# Altium footprint library Connector_Card.PcbLib: 23 footprints (part 1 of 2)
Each footprint in its own frame and in the unit in brackets; x right, y up, seen from the top. Pads: shape width x height; smd on the part's side, far side on the other; paste and mask are expansions set on the pad; w line width, h text height; cw(c..) or ccw(c..) is an arc to the next point about the centre after c.
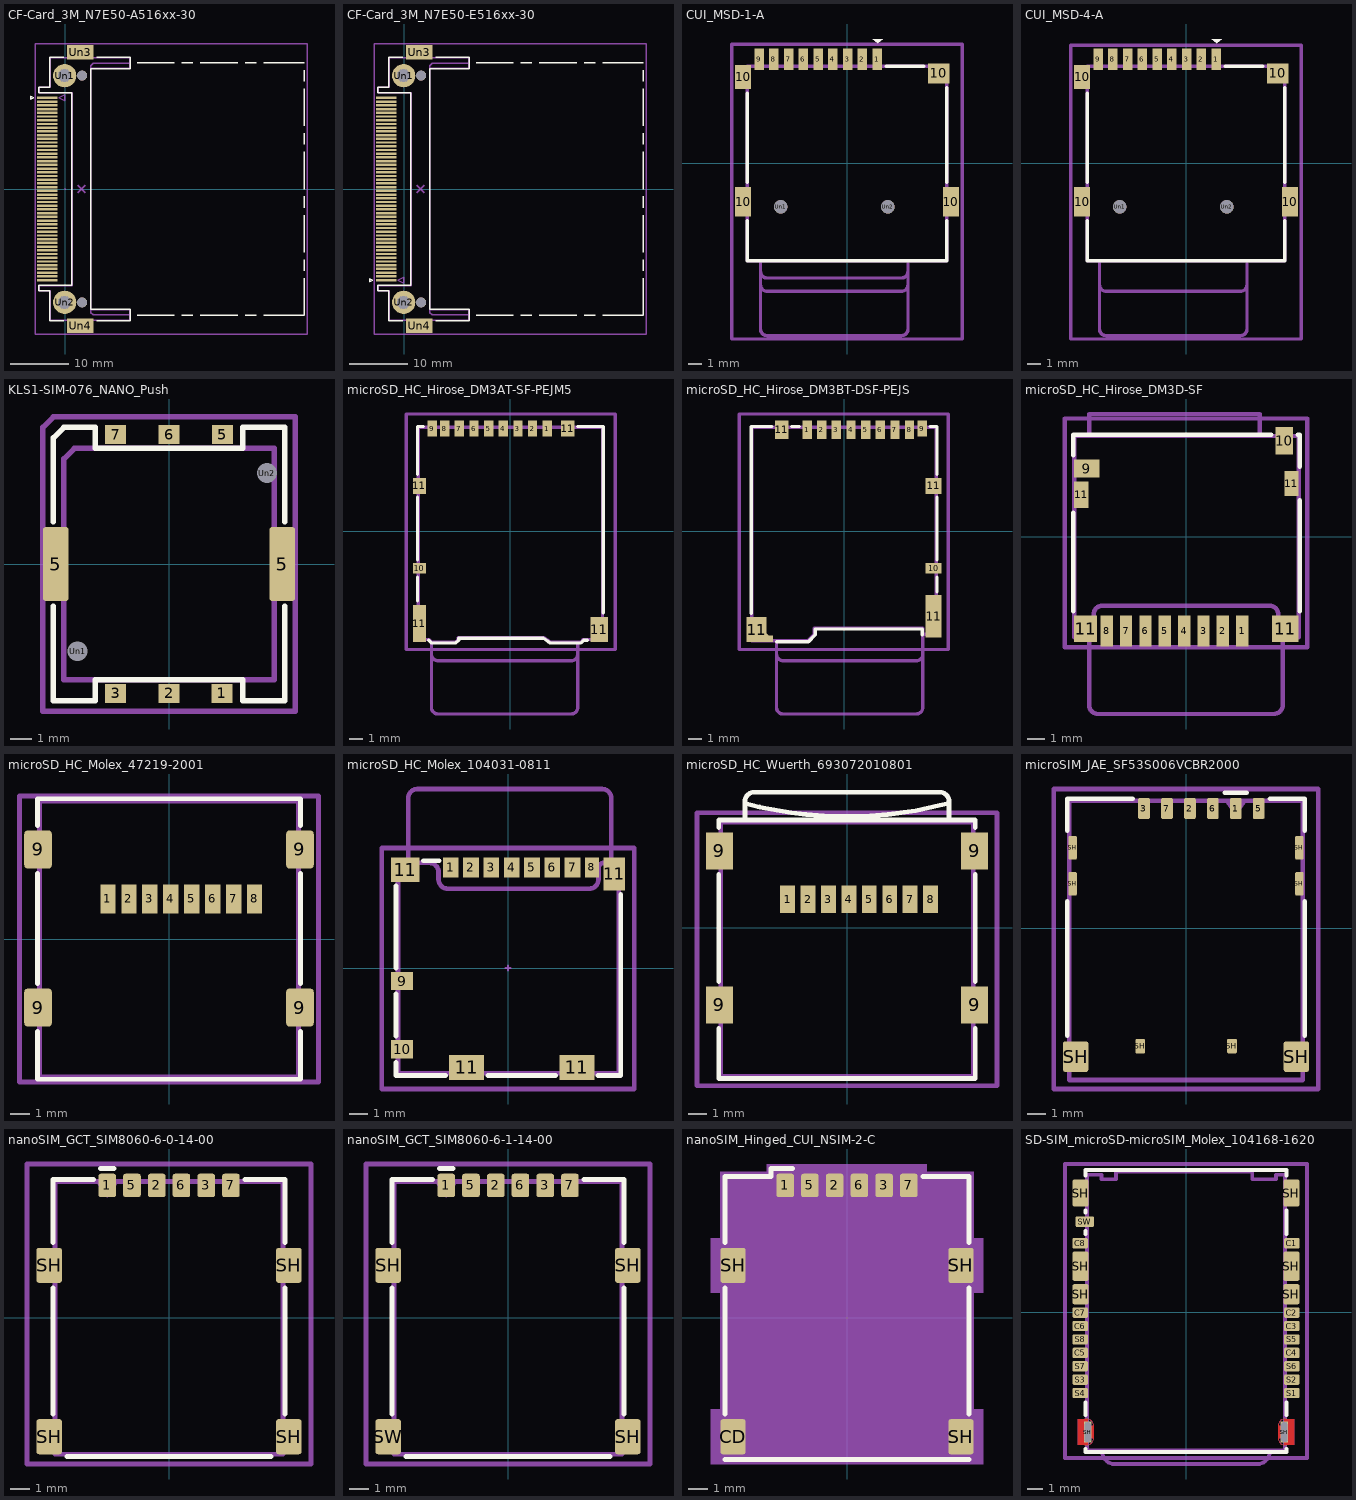
[diagram p0: the footprints below, top view; thin cyan lines are the x and y axes]

## CF-Card_3M_N7E50-A516xx-30 [mm]
pads (56):
  rect 3.51x0.41 smd: 1(-3.1,15.56) 2(-3.1,14.29) 3(-3.1,13.02) 4(-3.1,11.75) 5(-3.1,10.48) 6(-3.1,9.21) 7(-3.1,7.94) 8(-3.1,6.67) 9(-3.1,5.4) 10(-3.1,4.13) 11(-3.1,2.86) 12(-3.1,1.59) 13(-3.1,0.32) 14(-3.1,-0.95) 15(-3.1,-2.22) 16(-3.1,-3.49) 17(-3.1,-4.76) 18(-3.1,-6.03) 19(-3.1,-7.3) 20(-3.1,-8.57) 21(-3.1,-9.84) 22(-3.1,-11.11) 23(-3.1,-12.38) 24(-3.1,-13.65) 25(-3.1,-14.92) 26(-3.1,14.92) 27(-3.1,13.65) 28(-3.1,12.38) 29(-3.1,11.11) 30(-3.1,9.84) 31(-3.1,8.57) 32(-3.1,7.3) 33(-3.1,6.03) 34(-3.1,4.76) 35(-3.1,3.49) 36(-3.1,2.22) 37(-3.1,0.95) 38(-3.1,-0.32) 39(-3.1,-1.59) 40(-3.1,-2.86) 41(-3.1,-4.13) 42(-3.1,-5.4) 43(-3.1,-6.67) 44(-3.1,-7.94) 45(-3.1,-9.21) 46(-3.1,-10.48) 47(-3.1,-11.75) 48(-3.1,-13.02) 49(-3.1,-14.29) 50(-3.1,-15.56)
  round 3.99 hole 2.21: Un1(-0.1,19.37) Un2(-0.1,-19.37)
  rect 4.57x2.49 smd: Un3(2.57,23.34) Un4(2.57,-23.34)
  round 1.7 hole 1.7: Un5(2.9,19.37) Un6(2.9,-19.37)
F.SilkS:
  lines w0.254: -0.28,-22.48 -2.64,-22.48 -2.64,-17.42 -4.52,-17.42 -4.52,-16.41 1.09,-16.41 1.09,16.41 -4.52,16.41 -4.52,17.42 -2.64,17.42 -2.64,22.48 -0.28,22.48 ; 5.41,-22.48 11.08,-22.48 11.08,-20.55 4.4,-20.55 4.4,20.55 11.08,20.55 11.08,22.48 5.41,22.48 ; 12.3,-21.59 18.65,-21.59 ; 12.3,21.59 18.65,21.59 ; 19.92,-21.59 21.82,-21.59 ; 19.92,21.59 21.82,21.59 ; 23.09,-21.59 29.44,-21.59 ; 23.09,21.59 29.44,21.59 ; 30.71,-21.59 32.62,-21.59 ; 30.71,21.59 32.62,21.59 ; 33.89,-21.59 40.87,-21.59 40.87,-15.24 ; 33.89,21.59 40.87,21.59 ; 40.87,-13.97 40.87,-12.06 ; 40.87,-10.79 40.87,-4.45 ; 40.87,-3.17 40.87,-1.27 ; 40.87,0 40.87,6.35 ; 40.87,7.62 40.87,9.53 ; 40.87,10.79 40.87,17.14 ; 40.87,18.41 40.87,20.32 ; -5.85,15.31 -5.85,15.81 -5.35,15.56 -5.85,15.31
Top Component Center:
  lines w0.127: -0.127,0 0.127,0 ; 0,-0.127 0,0.127
Top Assembly:
  lines w0.254: 2.14,-0.64 3.41,0.64 ; 2.14,0.64 3.41,-0.64 ; 4.32,20.55 4.32,21.05 4.77,21.5 11.02,21.5 ; 11.02,-21.5 4.77,-21.5 4.37,-21.1 4.32,-21.05 4.32,-20.6 ; 4.32,-20.6 4.32,20.6 11.02,20.6 11.02,22.4 -2.58,22.4 -2.58,17.4 -4.43,17.4 -4.43,16.45 1.17,16.45 1.17,-16.5 -4.43,-16.5 -4.43,-17.35 -2.58,-17.35 -2.58,-22.4 11.02,-22.4 11.02,-20.6 4.32,-20.6 ; -1.1,15.56 -0.1,15.06 -0.1,16.06 -1.1,15.56
  text "'.Designator'" at 1.375,-4.047 h1
Top Courtyard:
  lines w0.254: -5.1,-24.8 -5.1,24.85 41.3,24.85 41.3,-24.8 -5.1,-24.8
Top Designator:
  text ".Designator" at 10.107,-0.483 h1.52

## CF-Card_3M_N7E50-E516xx-30 [mm]
pads (56):
  rect 3.51x0.41 smd: 1(-3.1,-15.56) 2(-3.1,-14.29) 3(-3.1,-13.02) 4(-3.1,-11.75) 5(-3.1,-10.48) 6(-3.1,-9.21) 7(-3.1,-7.94) 8(-3.1,-6.67) 9(-3.1,-5.4) 10(-3.1,-4.13) 11(-3.1,-2.86) 12(-3.1,-1.59) 13(-3.1,-0.32) 14(-3.1,0.95) 15(-3.1,2.22) 16(-3.1,3.49) 17(-3.1,4.76) 18(-3.1,6.03) 19(-3.1,7.3) 20(-3.1,8.57) 21(-3.1,9.84) 22(-3.1,11.11) 23(-3.1,12.38) 24(-3.1,13.65) 25(-3.1,14.92) 26(-3.1,-14.92) 27(-3.1,-13.65) 28(-3.1,-12.38) 29(-3.1,-11.11) 30(-3.1,-9.84) 31(-3.1,-8.57) 32(-3.1,-7.3) 33(-3.1,-6.03) 34(-3.1,-4.76) 35(-3.1,-3.49) 36(-3.1,-2.22) 37(-3.1,-0.95) 38(-3.1,0.32) 39(-3.1,1.59) 40(-3.1,2.86) 41(-3.1,4.13) 42(-3.1,5.4) 43(-3.1,6.67) 44(-3.1,7.94) 45(-3.1,9.21) 46(-3.1,10.48) 47(-3.1,11.75) 48(-3.1,13.02) 49(-3.1,14.29) 50(-3.1,15.56)
  round 3.99 hole 2.21: Un1(-0.1,19.37) Un2(-0.1,-19.37)
  rect 4.57x2.49 smd: Un3(2.57,23.34) Un4(2.57,-23.34)
  round 1.7 hole 1.7: Un5(2.9,19.37) Un6(2.9,-19.37)
F.SilkS:
  lines w0.254: -0.28,-22.48 -2.64,-22.48 -2.64,-17.42 -4.52,-17.42 -4.52,-16.41 1.09,-16.41 1.09,16.41 -4.52,16.41 -4.52,17.42 -2.64,17.42 -2.64,22.48 -0.28,22.48 ; 5.41,-22.48 11.08,-22.48 11.08,-20.55 4.4,-20.55 4.4,20.55 11.08,20.55 11.08,22.48 5.41,22.48 ; 12.3,-21.59 18.65,-21.59 ; 12.3,21.59 18.65,21.59 ; 19.92,-21.59 21.82,-21.59 ; 19.92,21.59 21.82,21.59 ; 23.09,-21.59 29.44,-21.59 ; 23.09,21.59 29.44,21.59 ; 30.71,-21.59 32.62,-21.59 ; 30.71,21.59 32.62,21.59 ; 33.89,-21.59 40.87,-21.59 40.87,-15.24 ; 33.89,21.59 40.87,21.59 ; 40.87,-13.97 40.87,-12.06 ; 40.87,-10.79 40.87,-4.45 ; 40.87,-3.17 40.87,-1.27 ; 40.87,0 40.87,6.35 ; 40.87,7.62 40.87,9.53 ; 40.87,10.79 40.87,17.14 ; 40.87,18.41 40.87,20.32 ; -5.85,-15.81 -5.35,-15.56 -5.85,-15.31 -5.85,-15.81
Top Assembly:
  lines w0.254: 2.14,-0.64 3.41,0.64 ; 2.14,0.64 3.41,-0.64 ; 4.32,20.55 4.32,21.05 4.77,21.5 11.02,21.5 ; 11.02,-21.5 4.77,-21.5 4.37,-21.1 4.32,-21.05 4.32,-20.6 ; 4.32,-20.6 11.02,-20.6 11.02,-22.4 -2.58,-22.4 -2.58,-17.35 -4.43,-17.35 -4.43,-16.5 1.17,-16.5 1.17,16.45 -4.43,16.45 -4.43,17.4 -2.58,17.4 -2.58,22.4 11.02,22.4 11.02,20.6 4.32,20.6 4.32,-20.6 ; -1.1,-15.56 -0.1,-16.06 -0.1,-15.06 -1.1,-15.56
  text "'.Designator'" at 1.375,-4.047 h1
Top Courtyard:
  lines w0.254: -5.1,-24.8 41.3,-24.8 41.3,24.85 -5.1,24.85 -5.1,-24.8
Top Designator:
  text ".Designator" at 10.107,-0.483 h1.52

## CUI_MSD-1-A [mm]
pads (15):
  rect 0.7x1.6 smd: 1(2.25,7.75) 2(1.15,7.75) 3(0.05,7.75) 4(-1.05,7.75) 5(-2.15,7.75) 6(-3.25,7.75) 7(-4.35,7.75) 8(-5.45,7.75) 9(-6.55,7.75)
  rect 1.2x2.2 smd: 10(-7.75,-2.85) 10(7.75,-2.85)
  rect 1.2x1.8 smd: 10(-7.75,6.45)
  rect 1.6x1.5 smd: 10(6.85,6.7)
  round 1 hole 1: Un1(-4.95,-3.25) Un2(3.05,-3.25)
F.SilkS:
  region: 1.905,9.271 2.667,9.271 2.286,8.944
  lines w0.254: -7.425,-4.27 -7.425,-7.25 7.425,-7.25 7.425,-4.27 ; -7.425,-1.43 -7.425,5.23 ; 2.92,7.25 5.73,7.25 ; 7.425,-1.43 7.425,5.63
Top Assembly:
  region: 1.905,9.271 2.667,9.271 2.286,8.944
  lines w0.254: -6.45,-9.05 ccw(c-5.95,-9.05) -5.95,-9.55 4.05,-9.55 ccw(c4.05,-9.05) 4.55,-9.05 ; -6.45,-8.05 ccw(c-5.95,-8.05) -5.95,-8.55 4.05,-8.55 ccw(c4.05,-8.05) 4.55,-8.05 ; -6.45,-7.25 -7.425,-7.25 -7.425,7.25 7.425,7.25 7.425,-7.25 4.55,-7.25 ; -6.45,-7.25 -6.45,-12.35 ccw(c-5.95,-12.35) -5.95,-12.85 4.05,-12.85 ccw(c4.05,-12.35) 4.55,-12.35 4.55,-7.25 ; -6.45,-7.25 4.55,-7.25
  text "'.Designator'" at -2.418,-0.227 h1
Top Courtyard:
  lines w0.254: -8.6,-13.1 8.6,-13.1 8.6,8.89 -8.6,8.89 -8.6,-13.1
Top Designator:
  text ".Designator" at -3.434,-0.345 h1.52
3D body "MSD-1-A.step": height 1.8, standoff -0.6, extent -8.075,-7.239 8.075,7.811

## CUI_MSD-4-A [mm]
pads (15):
  rect 0.7x1.6 smd: 1(2.25,7.75) 2(1.15,7.75) 3(0.05,7.75) 4(-1.05,7.75) 5(-2.15,7.75) 6(-3.25,7.75) 7(-4.35,7.75) 8(-5.45,7.75) 9(-6.55,7.75)
  rect 1.2x2.2 smd: 10(-7.75,-2.85) 10(7.75,-2.85)
  rect 1.2x1.8 smd: 10(-7.75,6.45)
  rect 1.6x1.5 smd: 10(6.85,6.7)
  round 1 hole 1: Un1(-4.95,-3.25) Un2(3.05,-3.25)
F.SilkS:
  region: 1.905,9.271 2.667,9.271 2.286,8.944
  lines w0.254: -7.375,-4.27 -7.375,-7.25 7.375,-7.25 7.375,-4.27 ; -7.375,-1.43 -7.375,5.23 ; 2.92,7.25 5.73,7.25 ; 7.375,-1.43 7.375,5.63
Top Assembly:
  region: 1.905,9.271 2.667,9.271 2.286,8.944
  lines w0.254: -6.45,-9.05 ccw(c-5.95,-9.05) -5.95,-9.55 4.05,-9.55 ccw(c4.05,-9.05) 4.55,-9.05 ; -6.45,-7.25 4.55,-7.25 ; -6.45,-7.25 -6.45,-12.35 ccw(c-5.95,-12.35) -5.95,-12.85 4.05,-12.85 ccw(c4.05,-12.35) 4.55,-12.35 4.55,-7.25 ; -6.45,-7.25 -7.375,-7.25 -7.375,7.25 7.375,7.25 7.375,-7.25 4.55,-7.25
  text "'.Designator'" at -2.418,-0.227 h1
Top Courtyard:
  lines w0.254: -8.6,-13.1 8.6,-13.1 8.6,8.8 -8.6,8.8 -8.6,-13.1
Top Designator:
  text ".Designator" at -3.434,-0.345 h1.52
3D body "MSD-4-A.step": height 1.8, standoff -0.6, extent -8.075,-7.366 8.075,7.684

## KLS1-SIM-076_NANO_Push [mm]
pads (10):
  rect 1x0.9 smd: 1(2.51,-6.15) 2(0,-6.15) 3(-2.54,-6.15) 5(2.54,6.15) 6(0,6.15) 7(-2.54,6.15)
  rrect15% 1.2x3.5 smd: 5(-5.385,0) 5(5.385,0)
  round 0.9 hole 0.95: Un1(-4.35,-4.15) Un2(4.66,4.32)
F.SilkS:
  lines w0.254: -5.5,-2 -5.5,-6.5 -3.5,-6.5 -3.5,-5.5 3.5,-5.5 3.5,-6.5 5.5,-6.5 5.5,-2 ; -5.5,2 -5.5,6 -5,6.5 -3.5,6.5 -3.5,5.5 3.5,5.5 3.5,6.5 5.5,6.5 5.5,2
Top Assembly:
  lines w0.254: -5,-5.5 -5,5 -4.5,5.5 5,5.5 5,-5.5 -5,-5.5
  text "'.Designator'" at -4.047,-0.84 h1
Top Courtyard:
  lines w0.254: -6,-7 -6,6.5 -5.5,7 6,7 6,-7 -6,-7
Top Designator:
  text ".Designator" at -7.618,-0.508 h1.52
3D body "KLS1-SIM-076.stp": height 1.35, standoff -0.3, extent -5.525,-6.15 5.525,6.15

## microSD_HC_Hirose_DM3AT-SF-PEJM5 [mm]
pads (14):
  rect 0.7x1.2 smd: 1(2.775,7.725) 2(1.675,7.725) 3(0.575,7.725) 4(-0.525,7.725) 5(-1.625,7.725) 6(-2.725,7.725) 7(-3.825,7.725) 8(-4.925,7.725) 9(-5.875,7.725)
  rect 1x0.8 smd: 10(-6.825,-2.775)
  rect 1x2.8 smd: 11(-6.825,-6.925)
  rect 1x1.2 smd: 11(-6.825,3.425) 11(4.325,7.725)
  rect 1.3x1.9 smd: 11(6.675,-7.375)
F.SilkS:
  lines w0.254: -6.975,-5.225 -6.975,-3.425 ; -6.975,-2.125 -6.975,2.575 ; -6.975,4.275 -6.975,7.885 -6.525,7.885 ; -6.145,-8.185 -5.945,-8.385 -4.085,-8.385 -3.875,-8.185 -3.875,-8.035 2.495,-8.035 3.005,-8.385 5.315,-8.385 5.515,-8.185 5.775,-8.185 ; 5.075,7.885 6.995,7.885 6.995,-6.125
Top Assembly:
  lines w0.254: -5.925,-9.225 ccw(c-5.425,-9.225) -5.425,-9.725 4.575,-9.725 ccw(c4.575,-9.225) 5.075,-9.225 ; -5.925,-8.325 -5.925,-13.225 ccw(c-5.425,-13.225) -5.425,-13.725 4.575,-13.725 ccw(c4.575,-13.225) 5.075,-13.225 5.075,-8.325 ; -6.925,-8.125 -6.925,7.825 6.925,7.825 6.925,-8.125 5.485,-8.125 5.285,-8.325 3.035,-8.325 2.51,-7.975 -3.915,-7.975 -3.915,-8.125 -4.115,-8.325 -5.915,-8.325 -6.115,-8.125 -6.925,-8.125
  text "'.Designator'" at -4.072,-1.165 h1
Top Courtyard:
  lines w0.254: -7.82,-8.88 -7.82,8.82 7.88,8.82 7.88,-8.88 -7.82,-8.88
Top Designator:
  text ".Designator" at -7.588,-2.96 h1.52
Cmts.User:
  text "KEEPOUT" at -6.46,1.373 h0.6
  text "KEEPOUT" at -5.385,-4.252 h0.6
  text "KEEPOUT" at -4.153,1.325 h1
  text "KEEPOUT" at 2.949,-7.91 h0.4
3D body "microSD_HC_Hirose_DM3AT-SF-PEJM5.step": height 1.68, standoff 0, extent -6.925,-8.325 6.925,7.825

## microSD_HC_Hirose_DM3BT-DSF-PEJS [mm]
pads (16):
  rect 0.7x1.4 smd: 1(-2.775,7.625) 2(-1.675,7.625) 3(-0.575,7.625) 4(0.525,7.625) 5(1.625,7.625) 6(2.725,7.625) 7(3.825,7.625) 8(4.925,7.625)
  rect 0.7x1.2 smd: 9(5.875,7.725)
  rect 1.2x0.8 smd: 10(6.725,-2.775)
  rect 1.5x1.9 smd: 11(-6.575,-7.375)
  rect 0.2x0.2 smd rot 45: 11(-5.825,-7.825)
  rect 0.5x0.5 smd: 11(-5.575,-8.075)
  rect 1x1.4 smd: 11(-4.675,7.625)
  rect 1.2x3.2 smd: 11(6.725,-6.375)
  rect 1.2x1.2 smd: 11(6.725,3.425)
F.SilkS:
  lines w0.254: -6.985,-6.175 -6.985,7.885 -5.425,7.885 ; -5.075,-8.285 -2.675,-8.285 ; -3.925,7.885 -3.375,7.885 ; -2.665,-8.275 -2.165,-7.785 -2.165,-7.335 5.865,-7.335 5.865,-7.785 ; 6.475,7.885 6.985,7.885 6.985,4.275 ; 6.985,-4.525 6.985,-3.425 ; 6.985,-2.125 6.985,2.575
Top Assembly:
  lines w0.254: -5.075,-9.225 ccw(c-4.575,-9.225) -4.575,-9.725 5.425,-9.725 ccw(c5.425,-9.225) 5.925,-9.225 ; -5.075,-8.225 -5.075,-13.225 ccw(c-4.575,-13.225) -4.575,-13.725 5.425,-13.725 ccw(c5.425,-13.225) 5.925,-13.225 5.925,-7.275 -2.225,-7.275 -2.225,-7.725 -2.725,-8.225 -6.925,-8.225 -6.925,7.825 6.925,7.825 6.925,-7.725 5.925,-7.725
  text "'.Designator'" at -3.672,-2.365 h1
Top Courtyard:
  lines w0.254: -7.88,-8.88 7.82,-8.88 7.82,8.82 -7.88,8.82 -7.88,-8.88
Top Designator:
  text ".Designator" at -7.648,-2.96 h1.52
Cmts.User:
  text "KEEPOUT" at 7.17,1.691 h0.5

## microSD_HC_Hirose_DM3D-SF [mm]
pads (14):
  rect 0.7x1.75 smd: 1(3.175,-5.35) 2(2.075,-5.35) 3(0.975,-5.35) 4(-0.125,-5.35) 5(-1.225,-5.35) 6(-2.325,-5.35) 7(-3.425,-5.35) 8(-4.525,-5.35)
  rect 1.45x1 smd: 9(-5.65,3.875)
  rect 1x1.55 smd: 10(5.575,5.45)
  rect 0.8x1.5 smd: 11(-5.975,2.375)
  rect 1.3x1.5 smd: 11(-5.725,-5.225)
  rect 1.5x1.5 smd: 11(5.625,-5.225)
  rect 0.8x1.4 smd: 11(5.975,3.025)
F.SilkS:
  lines w0.254: -6.435,-4.225 -6.435,1.375 ; -6.435,4.625 -6.435,5.785 4.825,5.785 ; 6.325,5.785 6.435,5.785 6.435,3.975 ; 6.435,-4.225 6.435,2.075
Top Assembly:
  lines w0.254: -5.525,5.725 -5.525,6.975 4.175,6.975 4.175,5.725 ; -5.525,-5.725 ccw(c-5.525,-5.475) -5.275,-5.475 -5.275,-4.425 cw(c-4.775,-4.425) -4.775,-3.925 4.725,-3.925 cw(c4.725,-4.425) 5.225,-4.425 5.225,-5.475 ccw(c5.475,-5.475) 5.475,-5.725 ; -5.525,-5.725 -5.525,-9.575 ccw(c-5.025,-9.575) -5.025,-10.075 4.975,-10.075 ccw(c4.975,-9.575) 5.475,-9.575 5.475,-5.725 ; -5.525,-5.725 -6.375,-5.725 -6.375,5.725 6.375,5.725 6.375,-5.725 5.475,-5.725
  text "'.Designator'" at -4.022,-2.265 h1
Top Courtyard:
  lines w0.254: -6.92,-6.28 6.88,-6.28 6.88,6.72 -6.92,6.72 -6.92,-6.28
Top Designator:
  text ".Designator" at -7.638,-2.058 h1.52
Cmts.User:
  text "KEEPOUT" at -1.976,4.54 h0.4
  text "KEEPOUT" at -3.353,-0.075 h1
3D body "microSD_HC_Hirose_DM3D-SF.step": height 1.55, standoff 0, extent -5.975,-5.775 5.975,5.675

## microSD_HC_Molex_47219-2001 [mm]
pads (12):
  rect 0.8x1.5 smd: 1(-3.205,2.1) 2(-2.105,2.1) 3(-1.005,2.1) 4(0.095,2.1) 5(1.195,2.1) 6(2.295,2.1) 7(3.395,2.1) 8(4.495,2.1)
  rrect25% 1.45x2 smd: 9(-6.875,-3.6) 9(-6.875,4.7) 9(6.875,-3.6) 9(6.875,4.7)
F.SilkS:
  lines w0.254: -6.91,-4.86 -6.91,-7.36 6.91,-7.36 6.91,-4.86 ; -6.91,-2.34 -6.91,3.44 ; -6.91,5.96 -6.91,7.36 6.91,7.36 6.91,5.96 ; 6.91,-2.34 6.91,3.44
Top Assembly:
  lines w0.254: -6.8,-7.25 -6.8,7.25 6.8,7.25 6.8,-7.25 -6.8,-7.25
  text "'.Designator'" at -4.047,-0.84 h1
Top Courtyard:
  lines w0.254: -7.85,-7.5 -7.85,7.5 7.85,7.5 7.85,-7.5 -7.85,-7.5
Top Designator:
  text ".Designator" at -7.618,-0.508 h1.52

## microSD_HC_Molex_104031-0811 [mm]
pads (14):
  rect 0.85x1.1 smd: 1(-3.105,5.45) 2(-2.005,5.45) 3(-0.905,5.45) 4(0.195,5.45) 5(1.295,5.45) 6(2.395,5.45) 7(3.495,5.45)
  rect 0.75x1.1 smd: 8(4.545,5.45)
  rect 1.2x1 smd: 9(-5.74,-0.7) 10(-5.74,-4.4)
  rect 1.55x1.35 smd: 11(-5.565,5.325)
  rect 1.9x1.35 smd: 11(-2.24,-5.375) 11(3.73,-5.375)
  rect 1.17x1.8 smd: 11(5.755,5.1)
F.SilkS:
  lines w0.254: -6.07,-5.1 -6.07,-5.82 -3.39,-5.82 ; -6.07,-3.7 -6.07,-1.4 ; -6.07,0 -6.07,4.45 ; -4.59,5.82 -3.73,5.82 ; -1.09,-5.82 2.58,-5.82 ; 4.88,-5.82 6.11,-5.82 6.11,4
Top Component Center:
  lines w0.127: -0.127,0 0.127,0 ; 0,-0.127 0,0.127
Top Assembly:
  lines w0.254: -5.405,5.7 -5.405,9.2 cw(c-4.905,9.2) -4.905,9.7 5.095,9.7 cw(c5.095,9.2) 5.595,9.2 5.595,5.7 ; 5.2,5.7 ccw(c5.2,5.4) 4.9,5.4 4.9,4.8 cw(c4.4,4.8) 4.4,4.3 -3.26,4.3 cw(c-3.26,4.8) -3.76,4.8 -3.76,5.2 ccw(c-4.26,5.2) -4.26,5.7 -5.955,5.7 -5.955,-5.7 5.995,-5.7 5.995,5.7 5.21,5.7
  text "'.Designator'" at -4.047,-0.84 h1
Top Courtyard:
  lines w0.254: -6.84,-6.55 6.84,-6.55 6.84,6.5 -6.84,6.5 -6.84,-6.55
Top Designator:
  text ".Designator" at -7.618,1.067 h1.52
3D body "1040310811.stp": height 1.44, standoff -0.01, extent -5.955,-5.7 5.995,5.7

## microSD_HC_Wuerth_693072010801 [mm]
pads (12):
  rect 0.8x1.5 smd: 1(-3.2,1.55) 2(-2.1,1.55) 3(-1,1.55) 4(0.1,1.55) 5(1.2,1.55) 6(2.3,1.55) 7(3.4,1.55) 8(4.5,1.55)
  rect 1.45x2 smd: 9(-6.875,-4.15) 9(-6.875,4.15) 9(6.875,-4.15) 9(6.875,4.15)
F.SilkS:
  lines w0.254: -6.91,-5.41 -6.91,-8.11 6.91,-8.11 6.91,-5.41 ; -6.91,-2.89 -6.91,2.89 ; -6.91,5.41 -6.91,5.81 6.91,5.81 6.91,5.41 ; -5.5,5.81 -5.5,6.81 cw(c-5,6.81) -5,7.31 5,7.31 cw(c5,6.81) 5.5,6.81 5.5,5.81 ; -5.5,6.71 -4.7,6.51 -3,6.21 -2.2,6.11 -0.9,6.01 0.9,6.01 2.2,6.11 3.7,6.31 5,6.61 5.5,6.71 ; 6.91,-2.89 6.91,2.89
Top Assembly:
  lines w0.254: -6.8,-8 -6.8,5.7 6.8,5.7 6.8,-8 -6.8,-8
  text "'.Designator'" at -4.047,-1.99 h1
Top Courtyard:
  lines w0.254: -8.08,-8.5 -8.08,6.2 8.08,6.2 8.08,-8.5 -8.08,-8.5
Top Designator:
  text ".Designator" at -7.618,-1.103 h1.52

## microSIM_JAE_SF53S006VCBR2000 [mm]
pads (14):
  rrect25% 0.65x1.15 smd: 1(2.755,6.62) 2(0.215,6.62) 3(-2.325,6.62) 5(4.025,6.62) 6(1.485,6.62) 7(-1.055,6.62)
  rrect25% 0.45x1.3 smd: SH(-6.27,2.45) SH(-6.27,4.45) SH(6.27,2.45) SH(6.27,4.45)
  rrect18% 1.4x1.7 smd: SH(-6.105,-7.11) SH(6.105,-7.11)
  rrect25% 0.54x0.8 smd: SH(-2.535,-6.53) SH(2.545,-6.53)
F.SilkS:
  lines w0.254: -6.56,-5.96 -6.56,1.5 ; -6.56,5.4 -6.56,7.16 -2.95,7.16 ; 2.155,7.495 3.355,7.495 ; 4.65,7.16 6.56,7.16 6.56,5.4 ; 6.56,-5.96 6.56,1.5
Top Assembly:
  lines w0.254: 2.255,7.05 2.755,6.35 3.255,7.05 ; -6.45,-8.4 -6.45,7.05 6.45,7.05 6.45,-8.4 -6.45,-8.4
  text "'.Designator'" at 0.84,-4.047 h1
Top Courtyard:
  lines w0.254: -7.31,-8.9 -7.31,7.7 7.31,7.7 7.31,-8.9 -7.31,-8.9
Top Designator:
  text ".Designator" at -7.618,-1.108 h1.52

## nanoSIM_GCT_SIM8060-6-0-14-00 [mm]
pads (10):
  rrect25% 0.9x1.2 smd: 1(-3.17,6.8) 2(-0.63,6.8) 3(1.91,6.8) 5(-1.9,6.8) 6(0.64,6.8) 7(3.18,6.8)
  rrect19% 1.3x1.8 smd: SH(-6.15,-6.1) SH(-6.15,2.7) SH(6.15,-6.1) SH(6.15,2.7)
F.SilkS:
  lines w0.254: -5.96,-4.94 -5.96,1.54 ; -5.96,3.86 -5.96,7.11 -3.88,7.11 ; -5.24,-7.11 5.24,-7.11 ; -3.52,7.68 -2.82,7.68 ; 3.89,7.11 5.96,7.11 5.96,3.86 ; 5.96,-4.94 5.96,1.54
Top Assembly:
  lines w0.254: -3.62,7 -3.17,6.3 -2.72,7 ; -5.85,-7 5.85,-7 5.85,7 -5.85,7 -5.85,-7
  text "'.Designator'" at -4.047,-0.84 h1
Top Courtyard:
  lines w0.254: -7.3,-7.5 7.3,-7.5 7.3,7.9 -7.3,7.9 -7.3,-7.5
Top Designator:
  text ".Designator" at -7.618,-0.308 h1.52

## nanoSIM_GCT_SIM8060-6-1-14-00 [mm]
pads (10):
  rrect25% 0.9x1.2 smd: 1(-3.17,6.8) 2(-0.63,6.8) 3(1.91,6.8) 5(-1.9,6.8) 6(0.64,6.8) 7(3.18,6.8)
  rrect19% 1.3x1.8 smd: SH(-6.15,2.7) SH(6.15,-6.1) SH(6.15,2.7) SW(-6.15,-6.1)
F.SilkS:
  lines w0.254: -5.96,-4.94 -5.96,1.54 ; -5.96,3.86 -5.96,7.11 -3.88,7.11 ; -5.24,-7.11 5.24,-7.11 ; -3.52,7.68 -2.82,7.68 ; 3.89,7.11 5.96,7.11 5.96,3.86 ; 5.96,-4.94 5.96,1.54
Top Assembly:
  lines w0.254: -3.62,7 -3.17,6.3 -2.72,7 ; -5.85,-7 5.85,-7 5.85,7 -5.85,7 -5.85,-7
  text "'.Designator'" at -4.047,-0.84 h1
Top Courtyard:
  lines w0.254: -7.3,-7.5 7.3,-7.5 7.3,7.9 -7.3,7.9 -7.3,-7.5
Top Designator:
  text ".Designator" at -7.618,-0.308 h1.52

## nanoSIM_Hinged_CUI_NSIM-2-C [mm]
pads (10):
  rrect25% 0.9x1.2 smd: 1(-3.175,6.8) 2(-0.635,6.8) 3(1.905,6.8) 5(-1.905,6.8) 6(0.635,6.8) 7(3.175,6.8)
  rrect19% 1.3x1.8 smd: CD(-5.85,-6.1) SH(-5.85,2.7) SH(5.85,-6.1) SH(5.85,2.7)
F.SilkS:
  lines w0.254: -6.26,-7.26 6.26,-7.26 ; -6.26,-4.94 -6.26,1.54 ; -6.26,3.86 -6.26,7.26 -3.89,7.26 -3.89,7.66 -2.8,7.66 ; 3.89,7.26 6.26,7.26 6.26,3.86 ; 6.26,-4.94 6.26,1.54
Top Assembly:
  region: -4.3,0.7 -4.6,0.7 -4.6,-0.5 -5,-0.5 -5,0.7 -5.3,0.7 -4.8,1.6
  region: 4.7,0.4 5,0.4 4.5,-0.5 4,0.4 4.3,0.4 4.3,1.6 4.7,1.6
  lines w0.254: -3.675,7 -3.175,6.35 -2.675,7 ; -6,-7 -6,7 6,7 6,-7 -6,-7
  text "'.Designator'" at -4.047,4.46 h1
  text "LOCK" at 5.15,-8.437 h1
  text "OPEN" at -4.15,-4.437 h1
Top Courtyard:
  region: 4.1,7.5 6.5,7.5 6.5,4.1 7,4.1 7,1.3 6.5,1.3 6.5,-4.7 7,-4.7 7,-7.5 -7,-7.5 -7,-4.7 -6.5,-4.7 -6.5,1.3 -7,1.3 -7,4.1 -6.5,4.1 -6.5,7.5 -4.13,7.5 -4.13,7.9 4.1,7.9
Top Designator:
  text ".Designator" at -7.618,-0.852 h1.52
3D body "nanoSIM_Hinged_CUI_NSIM-2-C.step": height 1.4, standoff -0.03, extent -6.2,-7 6.2,7.1

## SD-SIM_microSD-microSIM_Molex_104168-1620 [mm]
pads (25):
  rrect25% 1x0.68 smd: C1(6.95,4.525) C2(6.95,-0.035) C3(6.95,-0.915) C4(6.95,-2.675) C5(-6.95,-2.675) C6(-6.95,-0.915) C7(-6.95,-0.035) C8(-6.95,4.525) S1(6.95,-5.315) S2(6.95,-4.435) S3(-6.95,-4.435) S4(-6.95,-5.315) S5(6.95,-1.795) S6(6.95,-3.555) S7(-6.95,-3.555) S8(-6.95,-1.795)
  rrect25% 1.05x1.34 smd: SH(-6.925,1.175) SH(6.925,1.175)
  rrect25% 1.05x1.94 smd: SH(-6.925,3.015) SH(6.925,3.015)
  rrect25% 1.05x1.8 smd: SH(-6.925,7.825) SH(6.925,7.825)
  rect 0.5x1.4 hole 1.3 slot 0.4 at 0 deg: SH(-6.455,-7.875) SH(6.455,-7.875)
  rrect25% 1.2x0.7 smd: SW(-6.65,5.94)
F.Cu:
  circle w0: c6.505,-7.475 r0.45
  circle w0: c6.505,-8.275 r0.45
  circle w0: c-6.505,-7.475 r0.45
  circle w0: c-6.505,-8.275 r0.45
  region: 7.105,-8.725 6.455,-8.725 6.455,-8.275 6.055,-8.275 6.055,-7.475 6.455,-7.475 6.455,-7.025 7.105,-7.025
  region: -6.455,-7.475 -6.055,-7.475 -6.055,-8.275 -6.455,-8.275 -6.455,-8.725 -7.105,-8.725 -7.105,-7.025 -6.455,-7.025
B.Cu:
  circle w0: c6.505,-7.475 r0.45
  circle w0: c6.505,-8.275 r0.45
  circle w0: c-6.505,-7.475 r0.45
  circle w0: c-6.505,-8.275 r0.45
  region: 7.105,-8.725 6.455,-8.725 6.455,-8.275 6.055,-8.275 6.055,-7.475 6.455,-7.475 6.455,-7.025 7.105,-7.025
  region: -6.455,-7.475 -6.055,-7.475 -6.055,-8.275 -6.455,-8.275 -6.455,-8.725 -7.105,-8.725 -7.105,-7.025 -6.455,-7.025
F.SilkS:
  lines w0.254: -6.61,-8.985 -6.61,-9.185 6.61,-9.185 6.61,-8.985 ; -6.61,-6.765 -6.61,-5.915 ; -6.61,5.125 -6.61,5.33 ; -6.61,6.55 -6.61,6.665 ; -6.61,8.985 -6.61,9.335 6.61,9.335 6.61,8.985 ; 6.61,-6.765 6.61,-5.915 ; 6.61,5.125 6.61,6.665
F.Paste:
  circle w0: c6.505,-7.475 r0.45
  circle w0: c6.505,-8.275 r0.45
  circle w0: c-6.505,-7.475 r0.45
  circle w0: c-6.505,-8.275 r0.45
  region: 7.105,-8.725 6.455,-8.725 6.455,-8.275 6.055,-8.275 6.055,-7.475 6.455,-7.475 6.455,-7.025 7.105,-7.025
  region: -6.455,-7.475 -6.055,-7.475 -6.055,-8.275 -6.455,-8.275 -6.455,-8.725 -7.105,-8.725 -7.105,-7.025 -6.455,-7.025
F.Mask:
  circle w0: c6.505,-7.475 r0.45
  circle w0: c6.505,-8.275 r0.45
  circle w0: c-6.505,-7.475 r0.45
  circle w0: c-6.505,-8.275 r0.45
  region: 7.105,-8.725 6.455,-8.725 6.455,-8.275 6.055,-8.275 6.055,-7.475 6.455,-7.475 6.455,-7.025 7.105,-7.025
  region: -6.455,-7.475 -6.055,-7.475 -6.055,-8.275 -6.455,-8.275 -6.455,-8.725 -7.105,-8.725 -7.105,-7.025 -6.455,-7.025
B.Mask:
  circle w0: c6.505,-7.475 r0.45
  circle w0: c6.505,-8.275 r0.45
  circle w0: c-6.505,-7.475 r0.45
  circle w0: c-6.505,-8.275 r0.45
  region: 7.105,-8.725 6.455,-8.725 6.455,-8.275 6.055,-8.275 6.055,-7.475 6.455,-7.475 6.455,-7.025 7.105,-7.025
  region: -6.455,-7.475 -6.055,-7.475 -6.055,-8.275 -6.455,-8.275 -6.455,-8.725 -7.105,-8.725 -7.105,-7.025 -6.455,-7.025
Top Assembly:
  lines w0.254: -5.49,-9.075 -5.49,-9.185 ccw(c-4.7,-9.185) -4.7,-9.975 4.7,-9.975 ccw(c4.7,-9.185) 5.49,-9.185 5.49,-9.075 ; -6.5,-9.075 6.5,-9.075 6.5,9.025 5.9,9.025 5.9,8.725 4.35,8.725 4.35,9.225 -4.6,9.225 -4.6,8.725 -5.55,8.725 -5.55,9.025 -6.5,9.025 -6.5,-9.075
  text "'.Designator'" at -4.047,-0.84 h1
Top Courtyard:
  lines w0.254: -7.95,-9.58 7.95,-9.58 7.95,9.73 -7.95,9.73 -7.95,-9.58
Top Designator:
  text ".Designator" at -7.618,-0.63 h1.52